# Altium schematic symbol library SCH - SWITCHES - TMUX1574RSVR.SchLib: 1 symbol
Pins are listed as number, name and electrical type; pins without a type are passive.

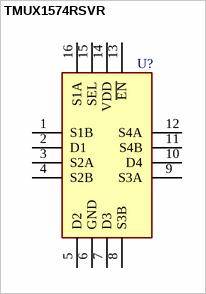
[diagram p0: symbol TMUX1574RSVR]

## TMUX1574RSVR
designator U?
pins: 1 S1B, 2 D1, 3 S2A, 4 S2B, 5 D2, 6 GND, 7 D3, 8 S3B, 9 S3A, 10 D4, 11 S4B, 12 S4A, 13 ~{EN}, 14 VDD, 15 SEL, 16 S1A